# EAGLE library part MITOHONDRIQUE_MV (library zubax_modules)
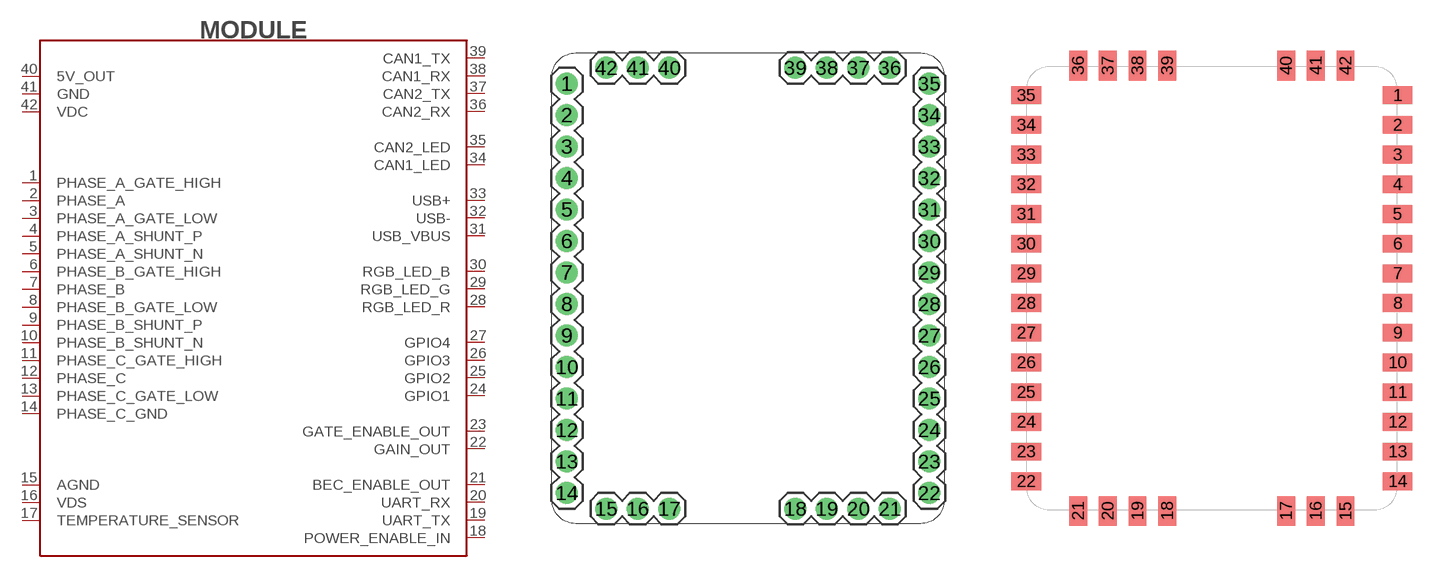
[diagram p0: symbol with the pads of MITOHONDRIK-TH; footprints MITOHONDRIK-TH, MITOHONDRIK-SMD]

Designator prefix MODULE

## MITOHONDRIQUE_MV-TH (MANF: Zubax Robotics; MANF#: Mitochondrik)  [MITOHONDRIK-TH]
1  PHASE_A_GATE_HIGH  out
2  PHASE_A  in
3  PHASE_A_GATE_LOW  out
4  PHASE_A_SHUNT_P  in
5  PHASE_A_SHUNT_N  out
6  PHASE_B_GATE_HIGH  in
7  PHASE_B  out
8  PHASE_B_GATE_LOW  in
9  PHASE_B_SHUNT_P  out
10  PHASE_B_SHUNT_N  in
11  PHASE_C_GATE_HIGH  out
12  PHASE_C  in
13  PHASE_C_GATE_LOW  in
14  PHASE_C_GND  in
15  AGND  in
16  VDS  in
17  TEMPERATURE_SENSOR  in
18  POWER_ENABLE_IN  in
19  UART_TX  out
20  UART_RX  in
21  BEC_ENABLE_OUT  out
22  GAIN_OUT  out
23  GATE_ENABLE_OUT  out
24  GPIO1
25  GPIO2
26  GPIO3  in
27  GPIO4
28  RGB_LED_R  out
29  RGB_LED_G  out
30  RGB_LED_B  out
31  USB_VBUS  in
32  USB-
33  USB+
34  CAN1_LED  out
35  CAN2_LED  out
36  CAN2_RX  in
37  CAN2_TX  out
38  CAN1_RX  in
39  CAN1_TX  out
40  5V_OUT  pwr
41  GND  pwr
42  VDC  pwr

## MITOHONDRIQUE_MV  [MITOHONDRIK-SMD]
Pads as for MITOHONDRIK-TH

## Footprint MITOHONDRIK-TH (pad centres in mm)
drill 0.8 pad 1.4: 1 -11.5,13; 2 -11.5,11; 3 -11.5,9; 4 -11.5,7; 5 -11.5,5; 6 -11.5,3; 7 -11.5,1; 8 -11.5,-1; 9 -11.5,-3; 10 -11.5,-5; 11 -11.5,-7; 12 -11.5,-9; 13 -11.5,-11; 14 -11.5,-13; 15 -9,-14; 16 -7,-14; 17 -5,-14; 18 3,-14; 19 5,-14; 20 7,-14; 21 9,-14; 22 11.5,-13; 23 11.5,-11; 24 11.5,-9; 25 11.5,-7; 26 11.5,-5; 27 11.5,-3; 28 11.5,-1; 29 11.5,1; 30 11.5,3; 31 11.5,5; 32 11.5,7; 33 11.5,9; 34 11.5,11; 35 11.5,13; 36 9,14; 37 7,14; 38 5,14; 39 3,14; 40 -5,14; 41 -7,14; 42 -9,14

## Footprint MITOHONDRIK-SMD (pad centres in mm)
smd 2 x 1.2: 1 12.5,13; 2 12.5,11; 3 12.5,9; 4 12.5,7; 5 12.5,5; 6 12.5,3; 7 12.5,1; 8 12.5,-1; 9 12.5,-3; 10 12.5,-5; 11 12.5,-7; 12 12.5,-9; 13 12.5,-11; 14 12.5,-13; 22 -12.5,-13; 23 -12.5,-11; 24 -12.5,-9; 25 -12.5,-7; 26 -12.5,-5; 27 -12.5,-3; 28 -12.5,-1; 29 -12.5,1; 30 -12.5,3; 31 -12.5,5; 32 -12.5,7; 33 -12.5,9; 34 -12.5,11; 35 -12.5,13
smd 1.2 x 2: 15 9,-15; 16 7,-15; 17 5,-15; 18 -3,-15; 19 -5,-15; 20 -7,-15; 21 -9,-15; 36 -9,15; 37 -7,15; 38 -5,15; 39 -3,15; 40 5,15; 41 7,15; 42 9,15